# Altium schematic symbol library MAX17577ATC+.SchLib: 1 symbol
Pins are listed as number, name and electrical type; pins without a type are passive.

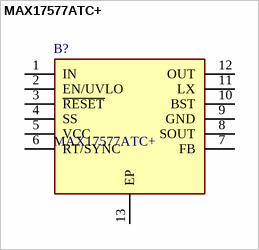
[diagram p0: symbol MAX17577ATC+]

## MAX17577ATC+
designator B?
1A High-Efficiency, Synchronous, 4.5V to 60V, Inverting Output DC-DC Converter, 12 TDFN 3mm x 3mm; Manufacturer_Name: Analog Devices; Geometry.Height: 0.8mm; Mouser Part Number: 700-MAX17577ATC+; Mouser Price/Stock: https://www.mouser.co.uk/ProductDetail/Analog-Devices-Maxim-Integrated/MAX17577ATC%2b?qs=eP2BKZSCXI6GRnD3M2riQA%3D%3D; Manufacturer_Part_Number: MAX17577ATC+; Datasheet Link: https://datasheets.maximintegrated.com/en/ds/MAX17577-MAX17578.pdf
footprint SON50P300X300X80-13N
pins: 1 IN, 2 EN/UVLO, 3 ~{RESET}, 4 SS, 5 VCC, 6 RT/SYNC, 7 FB, 8 SOUT, 9 GND, 10 BST, 11 LX, 12 OUT, 13 EP